# Altium footprint library RLC.PcbLib: 151 footprints (part 10 of 10)
Each footprint in its own frame and in the unit in brackets; x right, y up, seen from the top. Pads: shape width x height; smd on the part's side, far side on the other; paste and mask are expansions set on the pad; w line width, h text height; cw(c..) or ccw(c..) is an arc to the next point about the centre after c.
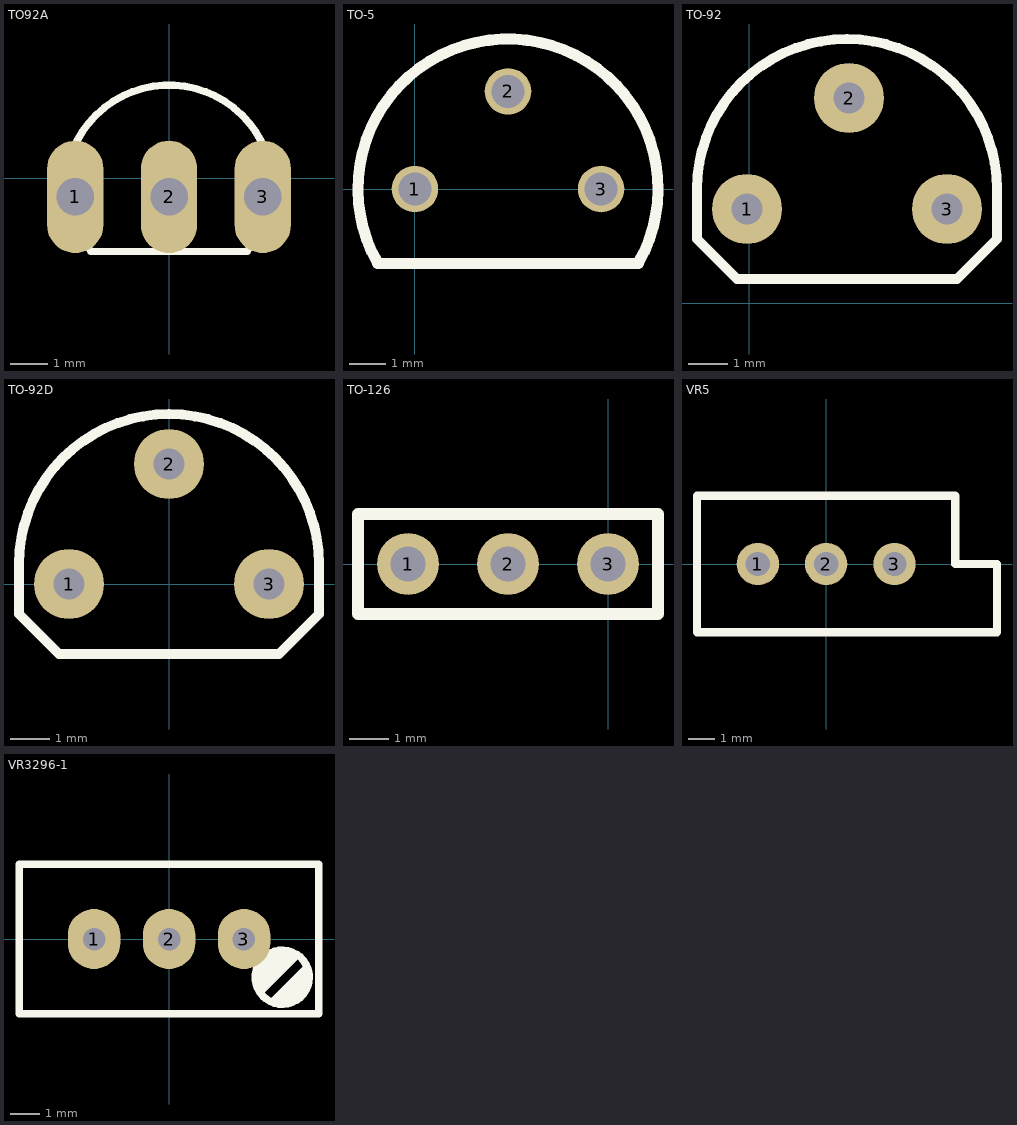
[diagram p9: the footprints below, top view; thin cyan lines are the x and y axes]

## TO92A [mil]
pads (3):
  oval 60x120 hole 40: 1(-100,-20) 2(0,-20) 3(100,-20)
Top Overlay:
  lines w7.87: -102.76,29.85 cw(c0,-11.67) 102.76,29.85 ; -89.08,-69.71 -83.33,-78.33 83.33,-78.33 89.08,-69.71

## TO-5 [mm]
pads (3):
  round 1.27 hole 0.9: 1(0,0) 2(2.54,2.667) 3(5.08,0)
Top Overlay:
  lines w0.305: -1.016,-2.032 cw(c2.54,0) 6.096,-2.032 -1.016,-2.032

## TO-92 [mil]
pads (3):
  round 70 hole 31.5: 1(-2,94) 2(100,205) 3(198,94)
Top Overlay:
  lines w10: -52,64 -52,114 cw(c98,114) 248,114 248,64 208,24 -12,24 -52,64

## TO-92D [mil]
pads (3):
  round 70 hole 31.5: 1(-100,0) 2(0,120) 3(100,0)
Top Overlay:
  lines w10: -150,-30 -110,-70 110,-70 150,-30 150,20 ccw(c0,20) -150,20 -150,-30

## TO-126 [mil]
pads (3):
  round 62 hole 35.43: 1(-200,0) 2(-100,0) 3(0,0)
Top Overlay:
  lines w12: -250,-50 50,-50 50,50 -250,50 -250,-50

## VR5 [mil]
pads (3):
  round 62 hole 35.43: 1(-100,0) 2(0,0) 3(100,0)
Top Overlay:
  lines w12: -188.98,-100 250,-100 250,0 188.98,0 188.98,100 -188.98,100 -188.98,-100

## VR3296-1 [mil]
pads (3):
  oval 70x80 hole 30: 1(-100,0) 2(0,0) 3(100,0)
Top Overlay:
  circle w10: c151,-51 r36.06
  lines w10: 157.76,-74.24 164.24,-74.24 171,-81 ; 171,-21 151,-41 121,-71 121,-61 161,-21 141,-21 ; 172.88,-79.12 171,-81 ; 181,-41 141,-81 151,-81 ; 131,-31 141,-31 ; 131,-31 141,-21 ; 131,-31 121,-41 121,-51 141,-31 ; 141,-31 151,-31 141,-21 ; 141,-31 141,-21 ; 151,-81 166.82,-65.18 172.88,-65.18 187.06,-51 187.06,-47.06 172.88,-61.23 170.77,-61.23 171,-61.47 171,-81 ; 151,-81 171,-81 ; -200,-100 -200,100 200,100 200,-100 0,-100 -200,-100